# Altium schematic symbol library Header 2x1 Battery.SchLib: 1 symbol
Pins are listed as number, name and electrical type; pins without a type are passive.

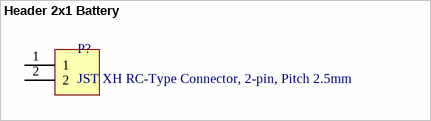
[diagram p0: symbol Header 2x1 Battery]

## Header 2x1 Battery
designator P?, comment JST XH RC-Type Connector, 2-pin, Pitch 2.5mm
JST XH RC-Type Connector, 2-pin, Pitch 2.5mm, referred to B2B-XH-AM(LF)(SN) from Digikey and PCE-A2501-WRC02-2_V from Altium Content Vault since they share the same parameters from JST.; Number of Positions: 2; Connector Type: Male Pin; Contact Resistance: 20mR; Max Current Rating: 3A; Max Voltage Rating (AC): 250V; Supplier 1: Digi-Key; Supplier Part Number 1: 455-2273-ND; Manufacturer: JST; Manufacturer Part Number: B2B-XH-AM(LF)(SN); RoHS: Yes; Category: Headers and Wire Housings; Pricing 1: 1=0.17000, 10=0.13400, 100=0.09910, 500=0.08198, 1000=0.07173, 5000=0.06148, 10000=0.05977 (USD); Mount: Through Hole; Contact Plating: Tin,Copper; Color: Green; Contact Material: Brass; Housing Color: White; Housing Material: Polyamide; Min Operating Temperature: -25°C; Max Operating Temperature: 85°C; Number of Rows: 1; Packaging: Bulk; Fastening Type: Detent; Termination: Solder; Series: XH; Contact Type: Male Pin; Orientation: Straight; Length: 7.4mm; Pitch: 2.5mm; Depth: 5.75mm; Lead Free: Lead Free; ComponentLink1URL: https://datasheet.ciiva.com/26894/getdatasheetpartid-640409-26894436.pdf?src-supplier=Verical; ComponentLink1Description: https://datasheet.ciiva.com/26894/getdatasheetpartid-640409-26894436.pdf?src-supplier=Verical; ComponentLink2URL: https://datasheet.ciiva.com/14800/exh-14800590.pdf?src-supplier=Digi-Key; ComponentLink2Description: https://datasheet.ciiva.com/14800/exh-14800590.pdf?src-supplier=Digi-Key
footprint PCE-A2501-WRC02-2_V (XH RC-Type Connector, 2-Leads, Pitch 2.5mm, Height 5.8mm, Tail Length 3.4mm)
pins: 1, 2